# EAGLE library part OPAMP_DUAL (library logic-supply)
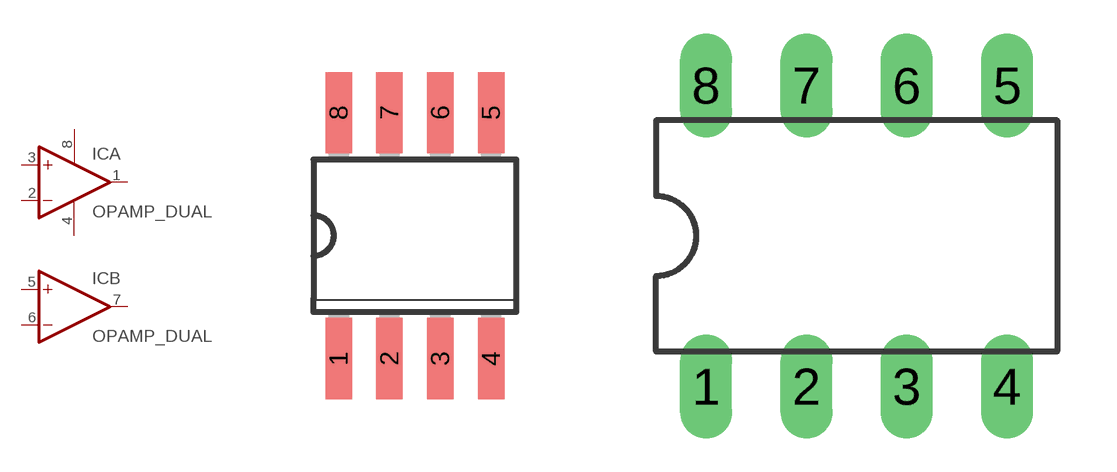
[diagram p2: symbol with the pads of SO08; footprints SO08, DIP08]

Designator prefix IC; gates A=OPAMP B=OPAMP G$3=PWR+-

## OPAMP_DUALD  [SO08]
1  A:OUT  out
2  A:-IN  in
3  A:+IN  in
4  G$3:V-  pwr
5  B:+IN  in
6  B:-IN  in
7  B:OUT  out
8  G$3:V+  pwr

## OPAMP_DUALN  [DIP08]
Pads as for SO08

## OPAMP_DUALT  [TSSOP8]
Pads as for SO08

## Footprint SO08 (pad centres in mm)
Small Outline Package SOIC 150 mil
smd 0.66 x 2.032: 1 -1.905,-3.073; 2 -0.635,-3.073; 3 0.635,-3.073; 4 1.905,-3.073; 5 1.905,3.073; 6 0.635,3.073; 7 -0.635,3.073; 8 -1.905,3.073

## Footprint DIP08 (pad centres in mm)
From adafruit.lbr DIL08
drill 0.813 long: 1 -3.81,-3.81; 2 -1.27,-3.81; 3 1.27,-3.81; 4 3.81,-3.81; 5 3.81,3.81; 6 1.27,3.81; 7 -1.27,3.81; 8 -3.81,3.81

## Footprint TSSOP8 (pad centres in mm)
smd 0.305 x 0.991: 1 -0.998,-2.918; 2 -0.347,-2.918; 3 0.302,-2.918; 4 0.953,-2.918; 5 0.953,2.918; 6 0.302,2.918; 7 -0.347,2.918; 8 -0.998,2.918